# EAGLE library part PMA3-73-1W+ (library PMA3-73-1W+)
Mini-Circuits SMT MMIC, Power Amplifier, 300 MHz to 7500 MHz, 50ohm, 3x3 mm QFN Style Package Source: Datasheet <https://www.minicircuits.com/WebStore/dashboard.html?model=PMA3-73-1W+>
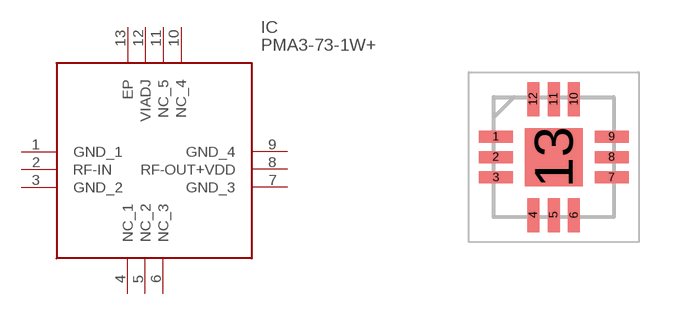
[diagram p0: symbol with the pads of QFN51P300X300X89-13N; footprint QFN51P300X300X89-13N]

Designator prefix IC

## PMA3-73-1W+ (Description: Mini-Circuits SMT MMIC, Power Amplifier, 300 MHz to 7500 MHz, 50ohm, 3x3 mm QFN Style Package; Height: 0.89mm; Manufacturer_Name: Mini-Circuits; Manufacturer_Part_Number: PMA3-73-1W+)  [QFN51P300X300X89-13N]
1  GND_1
2  RF-IN
3  GND_2
4  NC_1
5  NC_2
6  NC_3
7  GND_3
8  RF-OUT+VDD
9  GND_4
10  NC_4
11  NC_5
12  VIADJ
13  EP

## Footprint QFN51P300X300X89-13N (pad centres in mm)
3x3mm 12-Lead QFN
smd 0.85 x 0.3: 1 -1.45,0.51; 2 -1.45,0; 3 -1.45,-0.51; 7 1.45,-0.51; 8 1.45,0; 9 1.45,0.51
smd 0.3 x 0.85: 4 -0.51,-1.45; 5 0,-1.45; 6 0.51,-1.45; 10 0.51,1.45; 11 0,1.45; 12 -0.51,1.45
smd 1.45 x 1.45: 13 0,0